# EAGLE library part KB_A500 (library Amiga)
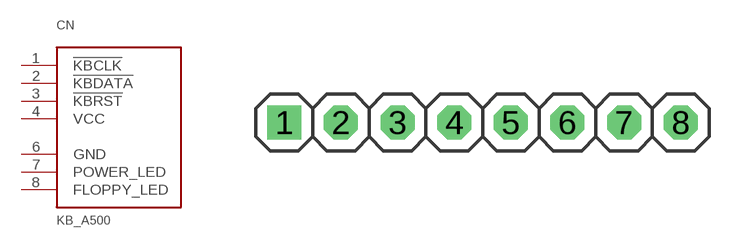
[diagram p31: symbol with the pads of 1X08S; footprint 1X08S]

Designator prefix CN

## KB_A500  [1X08S]
1  !KBCLK
2  !KBDATA
3  !KBRST
4  VCC  pwr
6  GND  pwr
7  POWER_LED  in
8  FLOPPY_LED  in

## Footprint 1X08S (pad centres in mm)
drill 1.016 square: 1 -7.62,0
drill 1.016 octagon: 2 -5.08,0; 3 -2.54,0; 4 0,0; 5 2.54,0; 6 5.08,0; 7 7.62,0; 8 10.16,0